# Altium footprint library RM024-PXXX.PcbLib: 1 footprints
Each footprint in its own frame and in the unit in brackets; x right, y up, seen from the top. Pads: shape width x height; smd on the part's side, far side on the other; paste and mask are expansions set on the pad; w line width, h text height; cw(c..) or ccw(c..) is an arc to the next point about the centre after c.
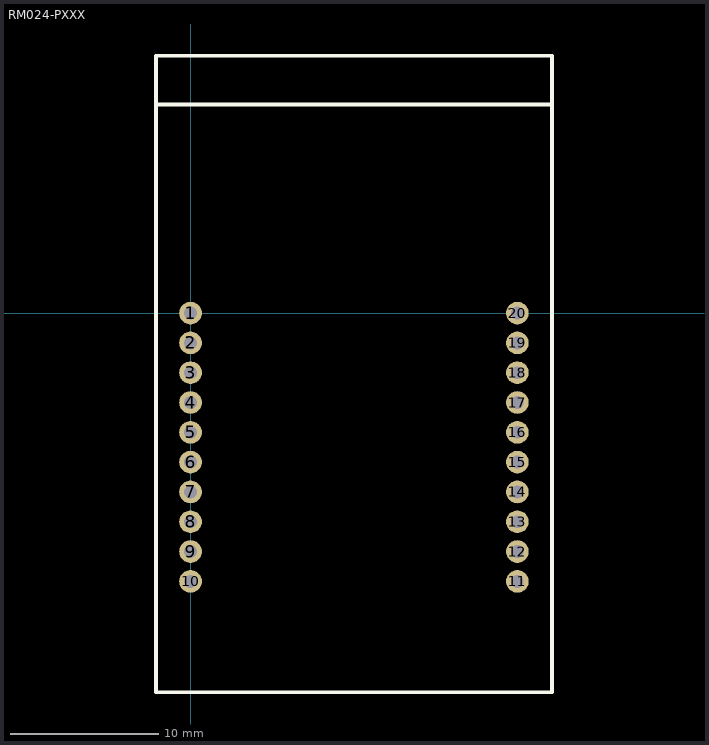
[diagram p0: the footprint, top view; thin cyan lines are the x and y axes]

## RM024-PXXX [mil]
height 318.11
pads (20):
  round 60 hole 34: 1(0,0) 2(0,-79) 3(0,-158) 4(0,-237) 5(0,-316) 6(0,-395) 7(0,-474) 8(0,-553) 9(0,-632) 10(0,-711) 11(866.14,-711) 12(866.14,-632) 13(866.14,-553) 14(866.14,-474) 15(866.14,-395) 16(866.14,-316) 17(866.14,-237) 18(866.14,-158) 19(866.14,-79) 20(866.14,0)
Top Overlay:
  lines w10: -91.73,553.15 957.87,553.15 ; 956.69,-1004.72 -91.73,-1004.72 -91.73,681.89 957.87,681.89 ; 958.27,-1004.72 958.27,681.89